# Altium footprint library RC_Car.PcbLib: 34 footprints (part 1 of 3)
Each footprint in its own frame and in the unit in brackets; x right, y up, seen from the top. Pads: shape width x height; smd on the part's side, far side on the other; paste and mask are expansions set on the pad; w line width, h text height; cw(c..) or ccw(c..) is an arc to the next point about the centre after c.
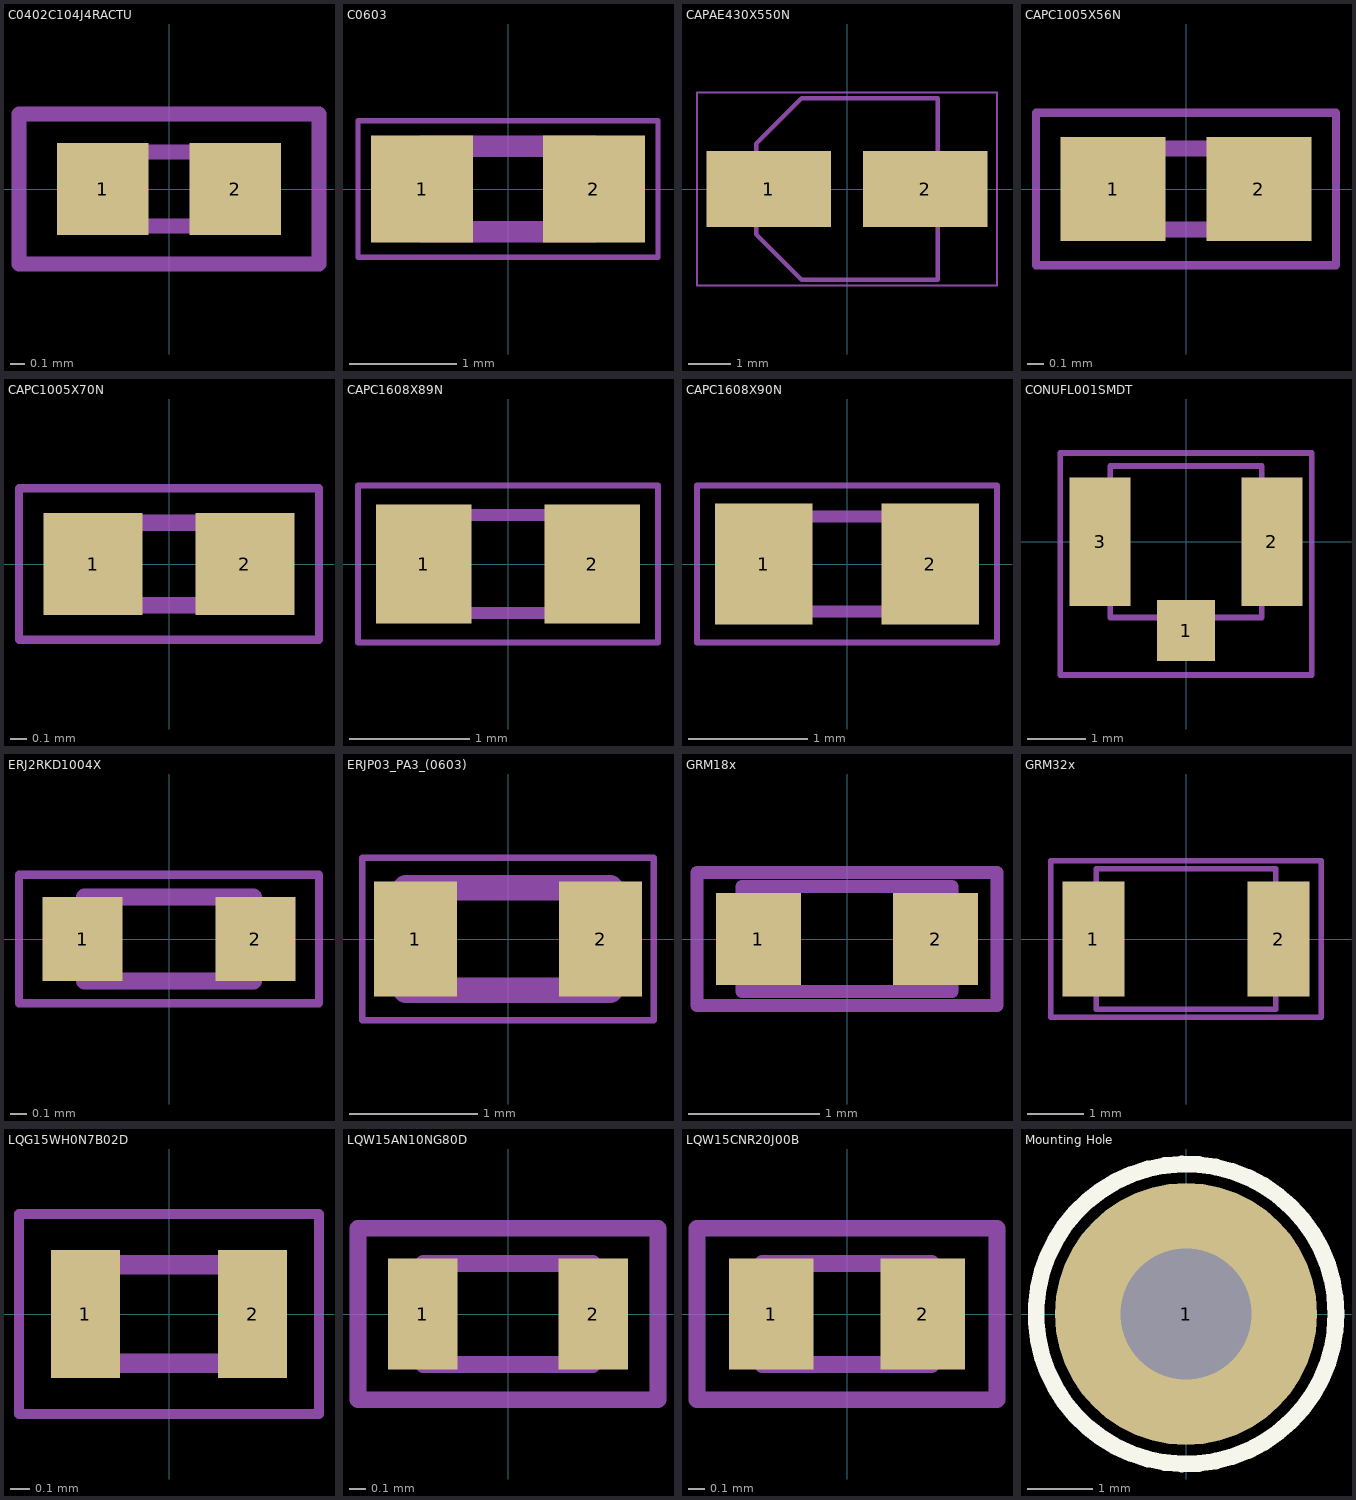
[diagram p0: the footprints below, top view; thin cyan lines are the x and y axes]

## C0402C104J4RACTU [mm]
pads (2):
  rect 0.62x0.62 smd: 1(-0.45,0) 2(0.45,0)
Mechanical 13:
  lines w0.1: -0.5,-0.25 0.5,-0.25 0.5,0.25 -0.5,0.25 -0.5,-0.25
Mechanical 15:
  lines w0.1: -1.016,-0.508 1.016,-0.508 1.016,0.508 -1.016,0.508 -1.016,-0.508
3D body "C0402C102K3RAC.stp": height 0.55, standoff 0, extent -0.52,-0.28 0.53,0.27

## C0603 [mm]
pads (2):
  rect 0.95x1 smd: 1(-0.8,0) 2(0.8,0)
Mechanical 13:
  lines w0.2: -0.8,-0.4 0.8,-0.4 0.8,0.4 -0.8,0.4 -0.8,-0.4
Mechanical 15:
  lines w0.05: -1.397,-0.635 1.397,-0.635 1.397,0.635 -1.397,0.635 -1.397,-0.635
3D body "C0603C103K5RACTU.stp": height 0.87, standoff 0, extent -0.87,-0.48 0.88,0.47

## CAPAE430X550N [mm]
pads (2):
  rect 2.95x1.8 smd: 1(-1.85,0) 2(1.85,0)
Mechanical 13:
  lines w0.1: -2.15,-1.075 -2.15,1.075 -1.075,2.15 2.15,2.15 2.15,-2.15 -1.075,-2.15 -2.15,-1.075
Mechanical 15:
  lines w0.05: -3.556,-2.286 3.556,-2.286 3.556,2.286 -3.556,2.286 -3.556,-2.286
3D body "865081740001.stp": height 5.5, standoff 0, extent -2.6,-2.25 2.6,2.25

## CAPC1005X56N [mm]
pads (2):
  rect 0.65x0.64 smd: 1(-0.45,0) 2(0.45,0)
Mechanical 13:
  lines w0.1: -0.5,-0.25 0.5,-0.25 0.5,0.25 -0.5,0.25 -0.5,-0.25
Mechanical 15:
  lines w0.05: -0.925,-0.47 0.925,-0.47 0.925,0.47 -0.925,0.47 -0.925,-0.47
3D body "04023C222KAT2A.stp": height 0.56, standoff 0, extent -0.5,-0.25 0.5,0.25

## CAPC1005X70N [mm]
pads (2):
  rect 0.6x0.62 smd: 1(-0.46,0) 2(0.46,0)
Mechanical 13:
  lines w0.1: -0.5,-0.25 -0.5,0.25 0.5,0.25 0.5,-0.25 -0.5,-0.25
Mechanical 15:
  lines w0.05: -0.91,-0.46 -0.91,0.46 0.91,0.46 0.91,-0.46 -0.91,-0.46
3D body "GRM1555C1E9R0WA01J.stp": height 0.5, standoff 0, extent -0.5,-0.25 0.5,0.25

## CAPC1608X89N [mm]
pads (2):
  rect 0.79x0.99 smd: 1(-0.7,0) 2(0.7,0)
Mechanical 13:
  lines w0.1: -0.8,-0.405 0.8,-0.405 0.8,0.405 -0.8,0.405 -0.8,-0.405
Mechanical 15:
  lines w0.05: -1.245,-0.65 1.245,-0.65 1.245,0.65 -1.245,0.65 -1.245,-0.65
3D body "KAM15AR71H473KM.stp": height 0.89, standoff 0, extent -0.8,-0.405 0.8,0.405

## CAPC1608X90N [mm]
pads (2):
  rect 0.82x1.02 smd: 1(-0.7,0) 2(0.7,0)
Mechanical 13:
  lines w0.1: -0.8,-0.4 0.8,-0.4 0.8,0.4 -0.8,0.4 -0.8,-0.4
Mechanical 15:
  lines w0.05: -1.26,-0.66 1.26,-0.66 1.26,0.66 -1.26,0.66 -1.26,-0.66
3D body "C0603C106M9PAC-TU.stp": height 0.9, standoff 0, extent -0.8,-0.4 0.8,0.4

## CONUFL001SMDT [mm]
pads (3):
  rect 1x1.05 smd: 1(0,-1.525)
  rect 1.05x2.2 smd: 2(1.475,0) 3(-1.475,0)
Mechanical 13:
  lines w0.1: -1.3,-1.3 1.3,-1.3 1.3,1.3 -1.3,1.3 -1.3,-1.3
Mechanical 15:
  lines w0.1: -2.159,-2.286 2.159,-2.286 2.159,1.524 -2.159,1.524 -2.159,-2.286
3D body "CONUFL001-SMD-T.stp": height 1.3, standoff 0, extent -1.5,-1.68 1.5,1.42

## ERJ2RKD1004X [mm]
pads (2):
  rect 0.475x0.5 smd: 1(-0.512,0) 2(0.512,0)
Mechanical 13:
  lines w0.1: -0.5,-0.25 0.5,-0.25 0.5,0.25 -0.5,0.25 -0.5,-0.25
Mechanical 15:
  lines w0.05: -0.889,-0.381 0.889,-0.381 0.889,0.381 -0.889,0.381 -0.889,-0.381
3D body "ERJ-2RKF2202X.stp": height 0.35, standoff 0, extent -0.5,-0.25 0.5,0.25

## ERJP03_PA3_(0603) [mm]
pads (2):
  rect 0.65x0.9 smd: 1(-0.725,0) 2(0.725,0)
Mechanical 13:
  lines w0.2: -0.8,-0.4 -0.8,0.4 0.8,0.4 0.8,-0.4 -0.8,-0.4
Mechanical 15:
  lines w0.05: -1.143,-0.635 -1.143,0.635 1.143,0.635 1.143,-0.635 -1.143,-0.635
3D body "ERJ-PA3F1003V.stp": height 0.45, standoff 0, extent -0.8,-0.4 0.8,0.4

## GRM18x [mm]
pads (2):
  rect 0.65x0.7 smd: 1(-0.675,0) 2(0.675,0)
Mechanical 13:
  lines w0.1: -0.8,-0.4 0.8,-0.4 0.8,0.4 -0.8,0.4 -0.8,-0.4
Mechanical 15:
  lines w0.1: -1.143,-0.508 1.143,-0.508 1.143,0.508 -1.143,0.508 -1.143,-0.508
3D body "GRM188R72A104KA35D.stp": height 0.8, standoff 0, extent -0.8,-0.45 0.8,0.45

## GRM32x [mm]
pads (2):
  rect 1.1x2.05 smd: 1(-1.65,0) 2(1.65,0)
Mechanical 13:
  lines w0.1: -1.6,-1.25 1.6,-1.25 1.6,1.25 -1.6,1.25 -1.6,-1.25
Mechanical 15:
  lines w0.1: -2.413,-1.397 2.413,-1.397 2.413,1.397 -2.413,1.397 -2.413,-1.397
3D body "GRM32ER71A476KE15L.stp": height 2.5, standoff 0, extent -1.6,-1.25 1.6,1.25

## LQG15WH0N7B02D [mm]
pads (2):
  rect 0.35x0.65 smd: 1(-0.425,0) 2(0.425,0)
Mechanical 13:
  lines w0.1: -0.5,-0.25 0.5,-0.25 0.5,0.25 -0.5,0.25 -0.5,-0.25
Mechanical 15:
  lines w0.05: -0.762,-0.508 0.762,-0.508 0.762,0.508 -0.762,0.508 -0.762,-0.508
3D body "LQG15HS8N2G02D.stp": height 0.55, standoff 0, extent -0.5,-0.25 0.5,0.25

## LQW15AN10NG80D [mm]
pads (2):
  rect 0.41x0.66 smd: 1(-0.505,0) 2(0.505,0)
Mechanical 13:
  lines w0.1: -0.5,-0.3 0.5,-0.3 0.5,0.3 -0.5,0.3 -0.5,-0.3
Mechanical 15:
  lines w0.1: -0.889,-0.508 0.889,-0.508 0.889,0.508 -0.889,0.508 -0.889,-0.508
3D body "LQW15AN3N9G80D.stp": height 0.6, standoff 0, extent -0.5,-0.25 0.5,0.25

## LQW15CNR20J00B [mm]
pads (2):
  rect 0.5x0.66 smd: 1(-0.45,0) 2(0.45,0)
Mechanical 13:
  lines w0.1: -0.5,-0.3 0.5,-0.3 0.5,0.3 -0.5,0.3 -0.5,-0.3
Mechanical 15:
  lines w0.1: -0.889,-0.508 0.889,-0.508 0.889,0.508 -0.889,0.508 -0.889,-0.508
3D body "LQW15AN2N7G8ZD.stp": height 0.6, standoff 0, extent -0.5,-0.25 0.5,0.25

## Mounting Hole [mm] "2mm Mounting Hole"
pads (1):
  round 4 hole 2: 1(0,0)
Top Overlay:
  circle w0.254: c0,0 r2.29